# Altium schematic symbol library Robotics.SchLib: 6 symbols
Pins are listed as number, name and electrical type; pins without a type are passive.

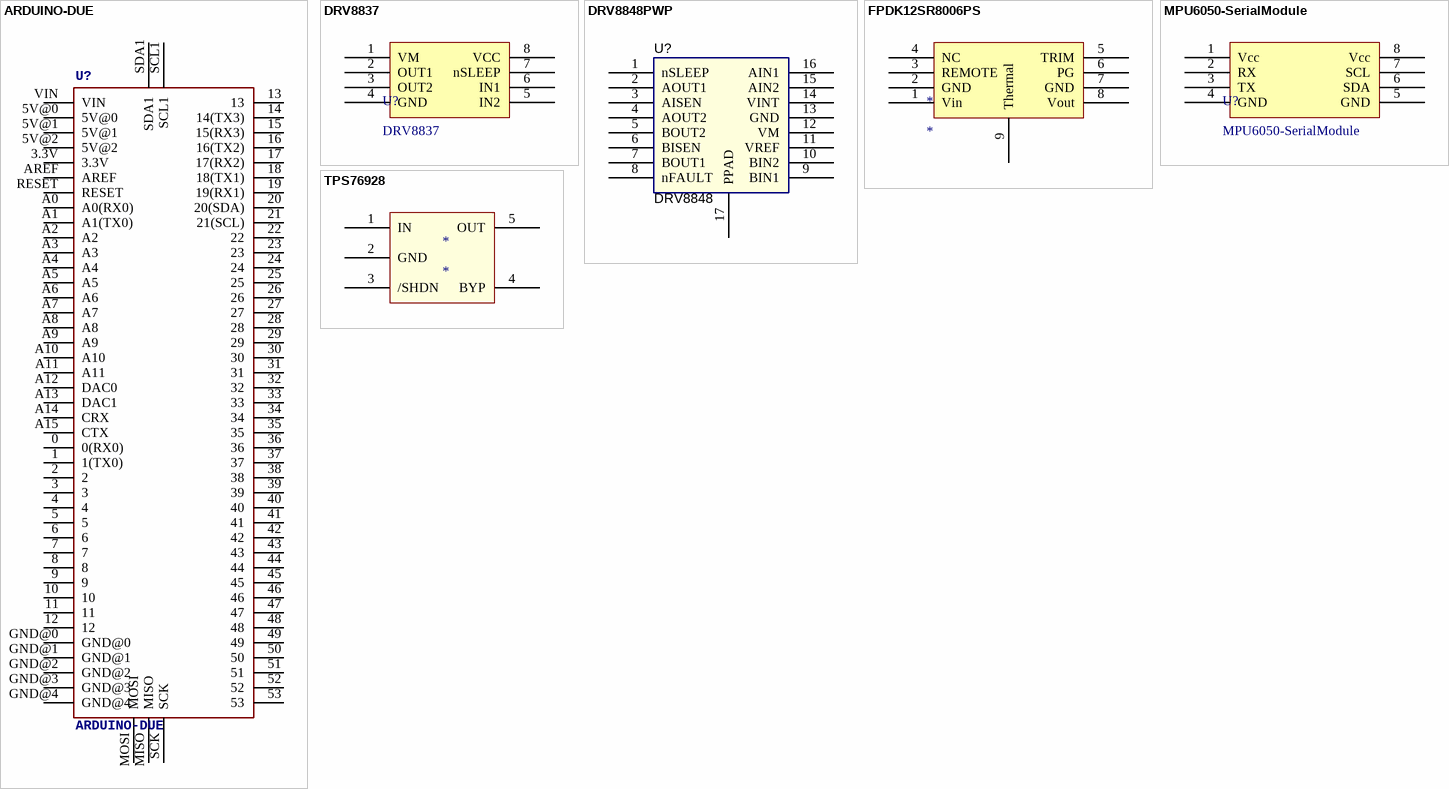
[diagram p0: symbols ARDUINO-DUE to TPS76928]

## ARDUINO-DUE
designator U?
footprint ARDUINO_MEGA
pins: 0 0(RX0), 1 1(TX0), 2, 3, 3.3V, 4, 5, 5V@0, 5V@1, 5V@2, 6, 7, 8, 9, 10, 11, 12, 13, 14 14(TX3), 15 15(RX3), 16 16(TX2), 17 17(RX2), 18 18(TX1), 19 19(RX1), 20 20(SDA), 21 21(SCL), 22, 23, 24, 25, 26, 27, 28, 29, 30, 31, 32, 33, 34, 35, 36, 37, 38, 39, 40, 41, 42, 43, 44, 45, 46, 47, 48, 49, 50, 51, 52, 53, A0 A0(RX0), A1 A1(TX0), A2, A3, A4, A5, A6, A7, A8, A9, A10, A11, A12 DAC0, A13 DAC1, A14 CRX, A15 CTX, AREF, GND@0, GND@1, GND@2, GND@3, GND@4, MISO, MOSI, RESET, SCK, SCL1, SDA1, VIN

## DRV8837
designator U?
pins: 1 VM, 2 OUT1, 3 OUT2, 4 GND, 5 IN2, 6 IN1, 7 nSLEEP, 8 VCC

## DRV8848PWP
designator U?, comment DRV8848
IC MOTOR DRIVER PAR 16HTSSOP; Manufacturer: Used in BOM report; Manufacturer: Texas Instruments; PartNumber: DRV8848PWP; SymbolVersion: use current date i.e. 2008-05-20; SymbolCreator: Use a-id; CompType: Used in some BOM reports.  Useful for finding later.; U/M: EA, IN, or GM; MountType: SMT, TH, or N/A; RoHS: Used in BOM report.  Use Y or N.; PartNumber: Used in BOM report; PackageReference: PWP0016; ComponentLink1Description: Datasheet Link; Alternate PartNumber: -; Alternate Manufacturer: -; Supplier 1: Digi-key; Supplier Part Number 1: 296-38514-5-ND
footprint PW0016S (Footprint not found)
pins: 1 nSLEEP, 2 AOUT1, 3 AISEN, 4 AOUT2, 5 BOUT2, 6 BISEN, 7 BOUT1, 8 nFAULT, 9 BIN1, 10 BIN2, 11 VREF, 12 VM, 13 GND, 14 VINT, 15 AIN2, 16 AIN1, 17 PPAD

## FPDK12SR8006PS
designator *
pins: 1 Vin, 2 GND, 3 REMOTE, 4 NC, 5 TRIM, 6 PG, 7 GND, 8 Vout, 9 Thermal

## MPU6050-SerialModule
designator U?
pins: 1 Vcc, 2 RX, 3 TX, 4 GND, 5 GND, 6 SDA, 7 SCL, 8 Vcc

## TPS76928
designator *
pins: 1 IN, 2 GND, 3 /SHDN, 4 BYP, 5 OUT